# Altium footprint library ti_rjn.PcbLib: 1 footprints
Each footprint in its own frame and in the unit in brackets; x right, y up, seen from the top. Pads: shape width x height; smd on the part's side, far side on the other; paste and mask are expansions set on the pad; w line width, h text height; cw(c..) or ccw(c..) is an arc to the next point about the centre after c.
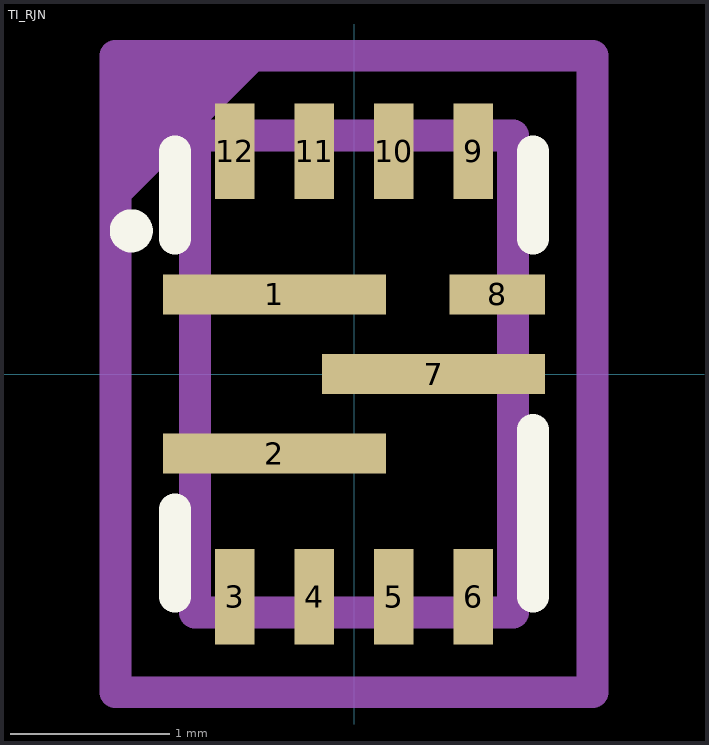
[diagram p0: the footprint, top view; thin cyan lines are the x and y axes]

## TI_RJN [mm]
height 1
pads (12):
  rect 1.4x0.25 smd: 1(-0.5,0.5) 2(-0.5,-0.5) 7(0.5,0)
  rect 0.25x0.6 smd: 3(-0.75,-1.4) 4(-0.25,-1.4) 5(0.25,-1.4) 6(0.75,-1.4) 9(0.75,1.4) 10(0.25,1.4) 11(-0.25,1.4) 12(-0.75,1.4)
  rect 0.6x0.25 smd: 8(0.9,0.5)
Top Overlay:
  circle w0.2: c-1.4,0.9 r0.035
  lines w0.2: -1.125,-1.4 -1.125,-0.85 ; -1.125,0.85 -1.125,1.4 ; 1.125,-1.4 1.125,-0.35 ; 1.125,0.85 1.125,1.4
Top 3D Body (Mech13):
  lines w0.2: -1,-1.5 -1,1.5 1,1.5 1,-1.5 -1,-1.5
Top Courtyard:
  region: -1.5,2 -0.5,2 -1.5,1
  lines w0.2: -1.5,-2 -1.5,2 1.5,2 1.5,-2 -1.5,-2
Top Designator:
  text ".Designator" at 0.15,-1.35 h0.6
3D body "RJN0012A.stp": height 1.01, standoff 0.01, extent -1,-1.5 1,1.5